# EAGLE library part MAX4619 (library KVB-ICs)
IC MUX/SW TRIPLE LV SPDT 16-SOIC
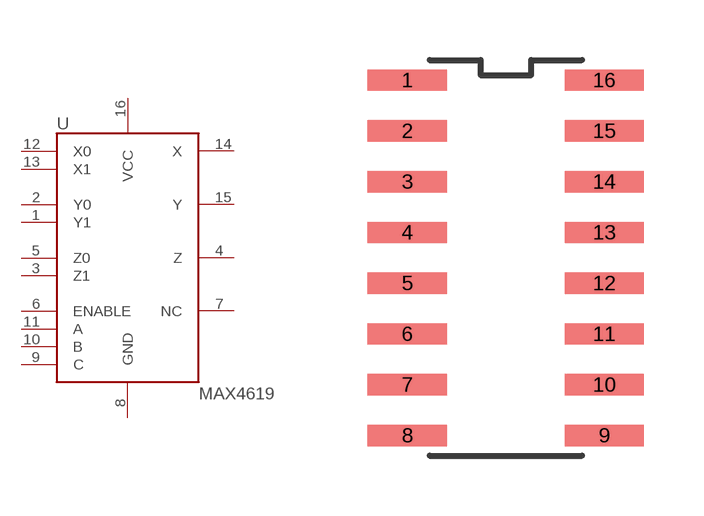
[diagram p4: symbol with the pads of 16SOIC; footprint 16SOIC]

Designator prefix U

## MAX4619 (MAN-PART_NUM: MAX4619CSE+; MANUFACTURER: Maxim Integrated)  [16SOIC]
1  Y1
2  Y0
3  Z1
4  Z
5  Z0
6  ENABLE
7  NC
8  GND
9  C
10  B
11  A
12  X0
13  X1
14  X
15  Y
16  VCC

## Footprint 16SOIC (pad centres in mm)
smd 1.981 x 0.533: 1 -2.464,4.445; 2 -2.464,3.175; 3 -2.464,1.905; 4 -2.464,0.635; 5 -2.464,-0.635; 6 -2.464,-1.905; 7 -2.464,-3.175; 8 -2.464,-4.445; 9 2.464,-4.445; 10 2.464,-3.175; 11 2.464,-1.905; 12 2.464,-0.635; 13 2.464,0.635; 14 2.464,1.905; 15 2.464,3.175; 16 2.464,4.445